# Altium footprint library AD9744.PcbLib: 2 footprints
Each footprint in its own frame and in the unit in brackets; x right, y up, seen from the top. Pads: shape width x height; smd on the part's side, far side on the other; paste and mask are expansions set on the pad; w line width, h text height; cw(c..) or ccw(c..) is an arc to the next point about the centre after c.
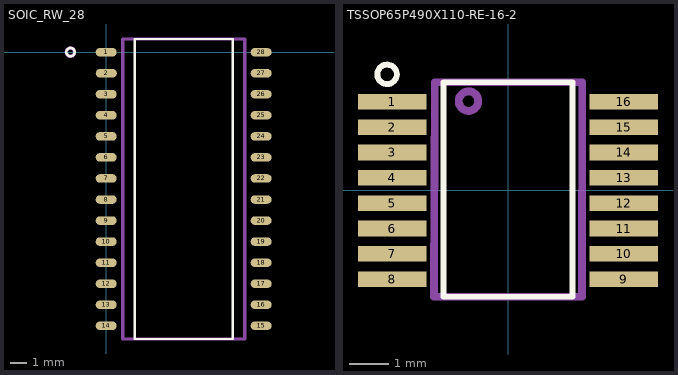
[diagram p0: the footprints below, top view; thin cyan lines are the x and y axes]

## SOIC_RW_28 [mm]
height 2.64
pads (28):
  oval 1.27x0.51 smd: 1(0,0) 2(0.003,-1.27) 3(0,-2.54) 4(0,-3.81) 5(0,-5.08) 6(0,-6.35) 7(0,-7.62) 8(0,-8.89) 9(0,-10.16) 10(0,-11.43) 11(0,-12.7) 12(0,-13.97) 13(0,-15.24) 14(0,-16.51) 15(9.347,-16.51) 16(9.347,-15.24) 17(9.347,-13.97) 18(9.347,-12.7) 19(9.347,-11.43) 20(9.347,-10.16) 21(9.347,-8.89) 22(9.347,-7.62) 23(9.347,-6.35) 24(9.347,-5.08) 25(9.347,-3.81) 26(9.347,-2.54) 27(9.35,-1.27) 28(9.347,0)
Top Overlay:
  circle w0.15: c-2.155,0.005 r0.25
  lines w0.15: 1.727,-17.305 1.727,0.795 7.62,0.795 7.62,-17.305 1.727,-17.305
Mechanical 1:
  circle w0.2: c-2.159,0 r0.25
  lines w0.2: 0.991,-17.305 0.991,0.795 8.357,0.795 8.357,-17.305 0.991,-17.305

## TSSOP65P490X110-RE-16-2 [mm] "TSSOP, 16-Leads, Body 3,0x3,0mm (max), Pitch 0,50mm, IPC Medium Density"
height 1.1
pads (16):
  rect 1.75x0.4 smd mask+0.03: 1(-2.97,2.275) 2(-2.97,1.625) 3(-2.97,0.975) 4(-2.97,0.325) 5(-2.97,-0.325) 6(-2.97,-0.975) 7(-2.97,-1.625) 8(-2.97,-2.275) 9(2.97,-2.275) 10(2.97,-1.625) 11(2.97,-0.975) 12(2.97,-0.325) 13(2.97,0.325) 14(2.97,0.975) 15(2.97,1.625) 16(2.97,2.275)
Top Overlay:
  circle w0.15: c-3.099,2.977 r0.25
  lines w0.15: -1.651,-2.725 1.651,-2.725 ; -1.65,-2.725 -1.651,2.775 1.651,2.775 1.65,-2.725
Mechanical 1:
  circle w0.2: c-1.012,2.291 r0.25
  lines w0.2: -1.9,-2.725 -1.88,2.775 1.905,2.775 1.9,-2.725 ; -1.88,-2.725 1.905,-2.725
3D body "SOT403-1.step": height 0.94, standoff -0.04, extent -3.21,-2.5 3.211,2.5